# Altium footprint library SHEET06.PcbLib: 64 footprints (part 2 of 4)
Each footprint in its own frame and in the unit in brackets; x right, y up, seen from the top. Pads: shape width x height; smd on the part's side, far side on the other; paste and mask are expansions set on the pad; w line width, h text height; cw(c..) or ccw(c..) is an arc to the next point about the centre after c.
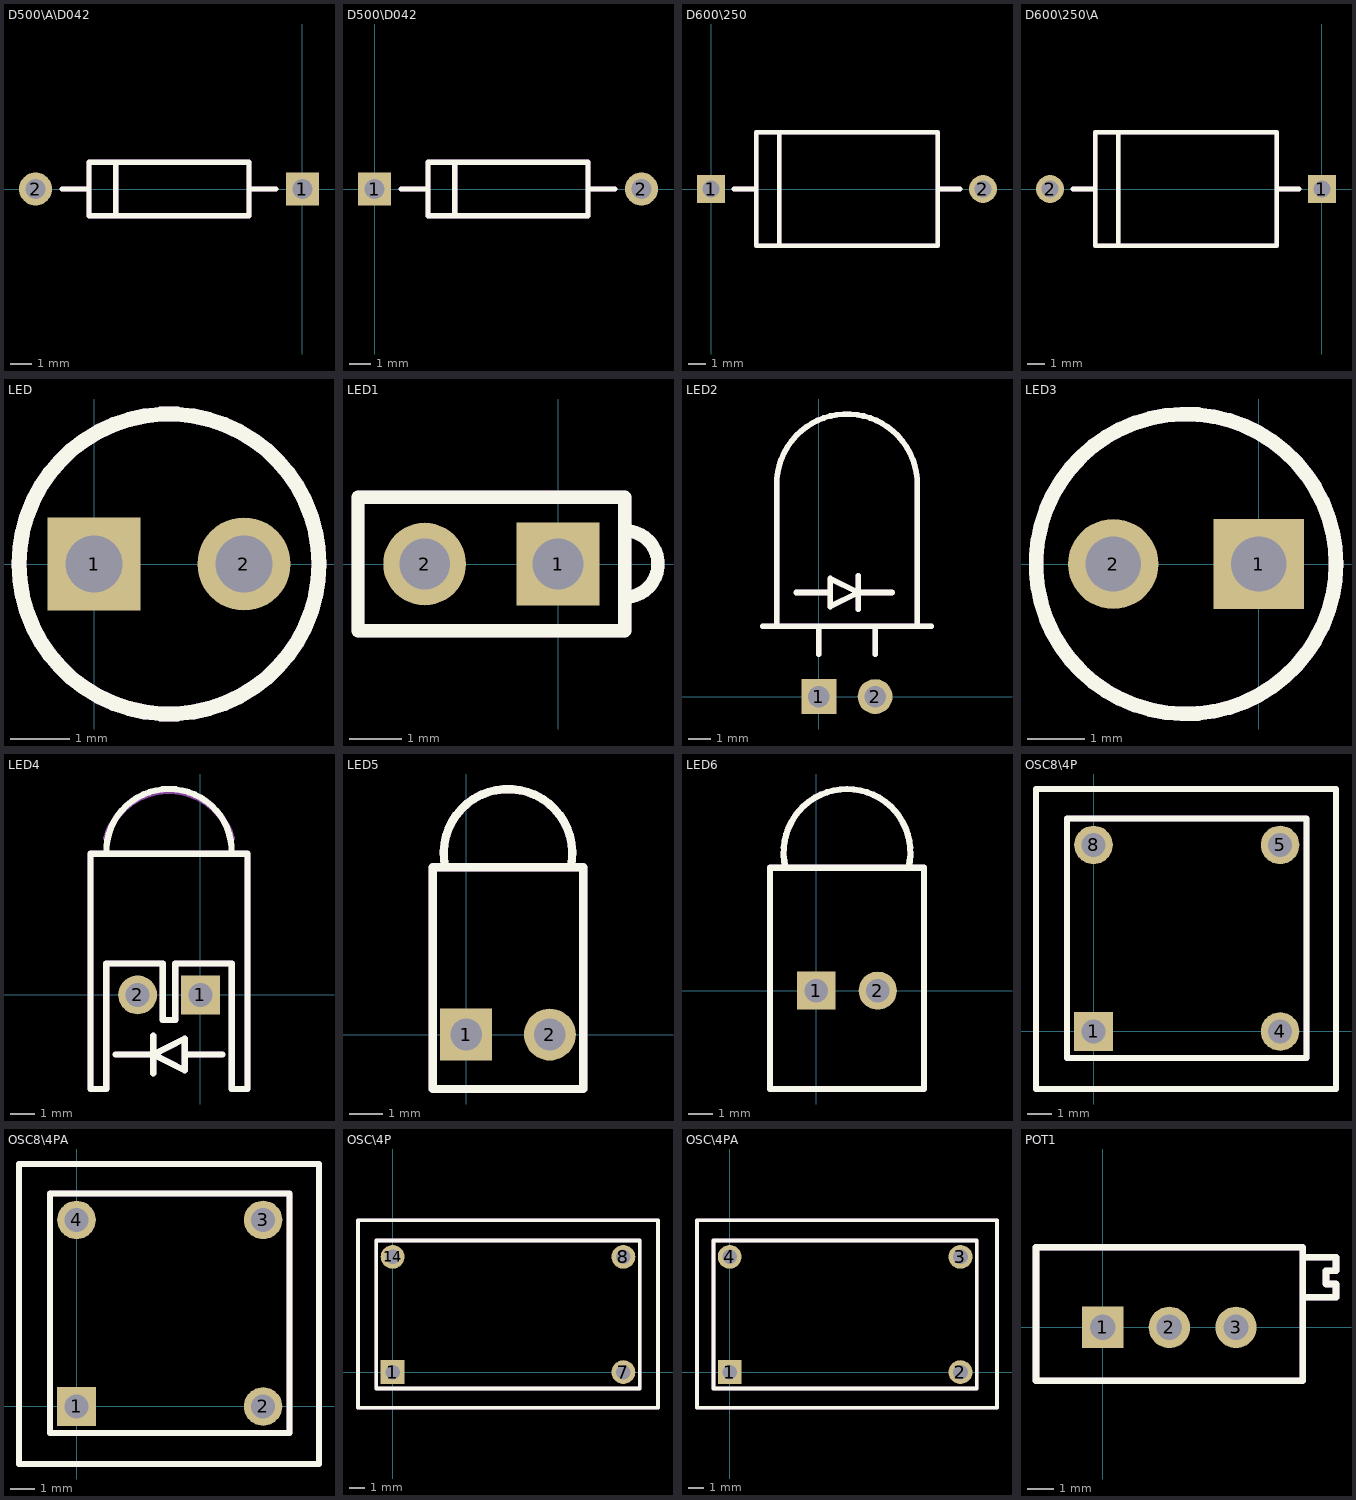
[diagram p1: the footprints below, top view; thin cyan lines are the x and y axes]

## D500\A\D042 [mil]
pads (2):
  rect 62x62 / inner round 62 / far side round 62 hole 38: 1(0,0)
  round 62 hole 38: 2(-500,0)
Top Overlay:
  lines w10: -450,0 -400,0 ; -350,-50 -350,50 ; -100,0 -50,0 ; -400,-50 -100,-50 -100,50 -400,50 -400,-50
  text ".Designator" at 125,425 h60
Mechanical 1:
  lines w10: -450,0 -400,0 ; -350,-50 -350,50 ; -100,0 -50,0 ; -400,-50 -400,50 -100,50 -100,-50 -400,-50
  text ".Designator" at 50,125 h60
  text ".Pattern" at -500,-200 h60

## D500\D042 [mil]
pads (2):
  rect 62x62 / inner round 62 / far side round 62 hole 38: 1(0,0)
  round 62 hole 38: 2(500,0)
Top Overlay:
  lines w10: 50,0 100,0 ; 150,-50 150,50 ; 400,0 450,0 ; 100,-50 400,-50 400,50 100,50 100,-50
  text ".Designator" at 0,400 h60
Mechanical 1:
  lines w10: 50,0 100,0 ; 150,-50 150,50 ; 400,0 450,0 ; 100,-50 400,-50 400,50 100,50 100,-50
  text ".Designator" at 0,160 h60
  text ".Pattern" at 0,-200 h60

## D600\250 [mil]
pads (2):
  rect 62x62 / inner round 62 / far side round 62 hole 38: 1(0,0)
  round 62 hole 38: 2(600,0)
Top Overlay:
  lines w10: 50,0 100,0 ; 150,-125 150,125 ; 500,0 550,0 ; 100,-125 500,-125 500,125 100,125 100,-125
  text ".Designator" at 0,125 h60
Mechanical 1:
  lines w10: 50,0 100,0 ; 150,-125 150,125 ; 500,0 550,0 ; 100,-125 500,-125 500,125 100,125 100,-125
  text ".Designator" at 0,125 h60
  text ".Pattern" at 75,-250 h60

## D600\250\A [mil]
pads (2):
  rect 62x62 / inner round 62 / far side round 62 hole 38: 1(0,0)
  round 62 hole 38: 2(-600,0)
Top Overlay:
  lines w10: -550,0 -500,0 ; -450,-125 -450,125 ; -100,0 -50,0 ; -500,-125 -100,-125 -100,125 -500,125 -500,-125
  text ".Designator" at 170,185 h60
Mechanical 1:
  lines w10: -550,0 -500,0 ; -450,-125 -450,125 ; -100,0 -50,0 ; -500,-125 -100,-125 -100,125 -500,125 -500,-125
  text ".Designator" at 190,-60 h60
  text ".Pattern" at -500,-250 h60

## LED [mil]
pads (2):
  rect 62x62 / inner round 62 / far side round 62 hole 38: 1(0,0)
  round 62 hole 38: 2(100,0)
Top Overlay:
  circle w10: c50,0 r100
  text ".Designator" at 150,125 h60
Mechanical 1:
  circle w10: c50,0 r100
  text ".Designator" at 125,-50 h60
  text ".Pattern" at -25,-225 h60

## LED1 [mil]
pads (2):
  rect 62x62 / inner round 62 / far side round 62 hole 38: 1(0,0)
  round 62 hole 38: 2(-100,0)
Top Overlay:
  lines w10: 50,-25 ccw(c50,0) 50,25 ; -150,-50 50,-50 50,50 -150,50 -150,-50
  text ".Designator" at 150,125 h60
Mechanical 1:
  lines w10: 50,-25 ccw(c50,0) 50,25 ; -150,-50 50,-50 50,50 -150,50 -150,-50
  text ".Designator" at 150,-50 h60
  text ".Pattern" at -125,-150 h60

## LED2 [mil]
pads (2):
  rect 62x62 / inner round 62 / far side round 62 hole 38: 1(0,0)
  round 62 hole 38: 2(100,0)
Top Overlay:
  lines w10: -100,125 200,125 ; -75,125 -75,375 cw(c50,377.5) 175,375 175,125 ; -40,185 20,185 ; 0,75 0,125 ; 70,155 70,215 ; 100,75 100,125 ; 130,185 70,185 ; 20,160 20,210 ; 20,160 70,185 ; 20,160 20,210 ; 20,160 70,185 ; 20,160 20,210 ; 20,160 70,185 ; 20,210 70,185 ; 20,210 70,185 ; 20,210 70,185
  text ".Designator" at 175,100 h60
Mechanical 1:
  lines w10: -100,125 200,125 ; -75,125 -75,375 cw(c50,377.5) 175,375 175,125 ; -40,185 20,185 ; 0,75 0,125 ; 70,155 70,215 ; 100,75 100,125 ; 130,185 70,185 ; 20,160 20,210 ; 20,160 70,185 ; 20,160 20,210 ; 20,160 70,185 ; 20,160 20,210 ; 20,160 70,185 ; 20,210 70,185 ; 20,210 70,185 ; 20,210 70,185
  text ".Designator" at 175,-50 h60
  text ".Pattern" at -75,-175 h60

## LED3 [mil]
pads (2):
  rect 62x62 / inner round 62 / far side round 62 hole 38: 1(0,0)
  round 62 hole 38: 2(-100,0)
Top Overlay:
  circle w10: c-50,0 r103.08
  text ".Designator" at 200,150 h60
Mechanical 1:
  circle w10: c-50,0 r103.08
  text ".Designator" at 200,-50 h60
  text ".Pattern" at -150,-200 h60

## LED4 [mil]
pads (2):
  rect 62x62 / inner round 62 / far side round 62 hole 38: 1(0,0)
  round 62 hole 38: 2(-100,0)
Top Overlay:
  lines w10: -150,225 cw(c-50,228.12) 50,225 ; -135,-95 -75,-95 ; -75,-125 -75,-65 ; -25,-95 35,-95 ; -75,-95 -25,-120 -25,-70 -75,-95 ; -175,-150 -175,225 75,225 75,-150 50,-150 50,50 -40,50 -40,-40 -60,-40 -60,50 -150,50 -150,-150 -175,-150
  text ".Designator" at 225,150 h60
Mechanical 1:
  lines w10: -150,250 cw(c-50,220.83) 50,250 ; -135,-95 -75,-95 ; -75,-125 -75,-65 ; -25,-95 35,-95 ; -75,-95 -25,-120 ; -75,-95 -25,-70 ; -75,-95 -25,-120 ; -75,-95 -25,-70 ; -75,-95 -25,-120 ; -75,-95 -25,-70 ; -25,-120 -25,-70 ; -25,-120 -25,-70 ; -25,-120 -25,-70 ; -175,-150 -150,-150 -150,50 -60,50 -60,-40 -40,-40 -40,50 50,50 50,-150 75,-150 75,225 -175,225 -175,-150
  text ".Designator" at 225,-50 h60
  text ".Pattern" at -150,-250 h60

## LED5 [mil]
pads (2):
  rect 62x62 / inner round 62 / far side round 62 hole 38: 1(0,0)
  round 62 hole 38: 2(100,0)
Top Overlay:
  lines w10: -25,200 cw(c50,216.67) 125,200 ; -40,-65 140,-65 140,200 -40,200 -40,-65
  text ".Designator" at 250,150 h60
Mechanical 1:
  lines w10: -25,200 cw(c50,216.67) 125,200 ; -40,-65 140,-65 140,200 -40,200 -40,-65
  text ".Designator" at 225,-50 h60
  text ".Pattern" at -50,-200 h60

## LED6 [mil]
pads (2):
  rect 62x62 / inner round 62 / far side round 62 hole 38: 1(0,0)
  round 62 hole 38: 2(100,0)
Top Overlay:
  lines w10: -50,200 cw(c50,225) 150,200 ; -75,-160 -75,200 175,200 175,-160 -75,-160
  text ".Designator" at 325,150 h60
Mechanical 1:
  lines w10: -50,200 cw(c50,225) 150,200 ; -75,-160 175,-160 175,200 -75,200 -75,-160
  text ".Designator" at 325,-50 h60
  text ".Pattern" at -100,-300 h60

## OSC8\4P [mil]
pads (4):
  rect 62x62 / inner round 62 / far side round 62 hole 38: 1(0,0)
  round 62 hole 38: 4(300,0) 5(300,300) 8(0,300)
Top Overlay:
  lines w10: -92.5,-92.5 -92.5,390 390,390 390,-92.5 -92.5,-92.5 ; -42.5,-42.5 -42.5,342.5 342.5,342.5 342.5,-42.5 -42.5,-42.5
  text ".Designator" at 0,150 h60
Mechanical 1:
  lines w10: -92.5,-92.5 -92.5,390 390,390 390,-92.5 -92.5,-92.5 ; -42.5,-42.5 -42.5,342.5 342.5,342.5 342.5,-42.5 -42.5,-42.5
  text ".Designator" at -25,25 h60
  text ".Pattern" at -50,-200 h60

## OSC8\4PA [mil]
pads (4):
  rect 62x62 / inner round 62 / far side round 62 hole 38: 1(0,0)
  round 62 hole 38: 2(300,0) 3(300,300) 4(0,300)
Top Overlay:
  lines w10: -92.5,-92.5 390,-92.5 390,390 -92.5,390 -92.5,-92.5 ; -42.5,-42.5 342.5,-42.5 342.5,342.5 -42.5,342.5 -42.5,-42.5
  text ".Designator" at -25,175 h60
Mechanical 1:
  lines w10: -92.5,-92.5 390,-92.5 390,390 -92.5,390 -92.5,-92.5 ; -42.5,-42.5 -42.5,342.5 342.5,342.5 342.5,-42.5 -42.5,-42.5
  text ".Designator" at -25,50 h60
  text ".Pattern" at -50,-175 h60

## OSC\4P [mil]
pads (4):
  rect 62x62 / inner round 62 / far side round 62 hole 38: 1(0,0)
  round 62 hole 38: 7(600,0) 8(600,300) 14(0,300)
Top Overlay:
  lines w10: -90,-92.5 690,-92.5 690,395 -90,395 -90,-92.5 ; -42.5,-42.5 642.5,-42.5 642.5,342.5 -42.5,342.5 -42.5,-42.5
  text ".Designator" at -50,850 h60
Mechanical 1:
  lines w10: -90,-92.5 690,-92.5 690,395 -90,395 -90,-92.5 ; -42.5,-42.5 642.5,-42.5 642.5,342.5 -42.5,342.5 -42.5,-42.5
  text ".Designator" at -50,375 h60
  text ".Pattern" at 100,-200 h60

## OSC\4PA [mil]
pads (4):
  rect 62x62 / inner round 62 / far side round 62 hole 38: 1(0,0)
  round 62 hole 38: 2(600,0) 3(600,300) 4(0,300)
Top Overlay:
  lines w10: -85,-92.5 695,-92.5 695,395 -85,395 -85,-92.5 ; -42.5,-42.5 642.5,-42.5 642.5,342.5 -42.5,342.5 -42.5,-42.5
  text ".Designator" at -225,850 h60
Mechanical 1:
  lines w10: -85,-92.5 695,-92.5 695,395 -85,395 -85,-92.5 ; -42.5,-42.5 642.5,-42.5 642.5,342.5 -42.5,342.5 -42.5,-42.5
  text ".Designator" at -250,350 h60
  text ".Pattern" at 0,-200 h60

## POT1 [mil]
pads (3):
  rect 62x62 / inner round 62 / far side round 62 hole 38: 1(0,0)
  round 62 hole 38: 2(100,0) 3(200,0)
Top Overlay:
  lines w10: -100,-80 300,-80 300,120 -100,120 -100,-80 ; 300,45 350,45 350,65 335,65 335,85 350,85 350,105 300,105 300,45
  text ".Designator" at 75,100 h60
Mechanical 1:
  lines w10: -100,-80 300,-80 300,120 -100,120 -100,-80 ; 300,45 300,105 350,105 350,85 335,85 335,65 350,65 350,45 300,45
  text ".Designator" at 75,100 h60
  text ".Pattern" at 0,-200 h60